# Altium footprint library PCB - LEADLESS - QFN - MINI-CIRCUITS QFN-12 DQ1225.PcbLib: 1 footprints
Each footprint in its own frame and in the unit in brackets; x right, y up, seen from the top. Pads: shape width x height; smd on the part's side, far side on the other; paste and mask are expansions set on the pad; w line width, h text height; cw(c..) or ccw(c..) is an arc to the next point about the centre after c.
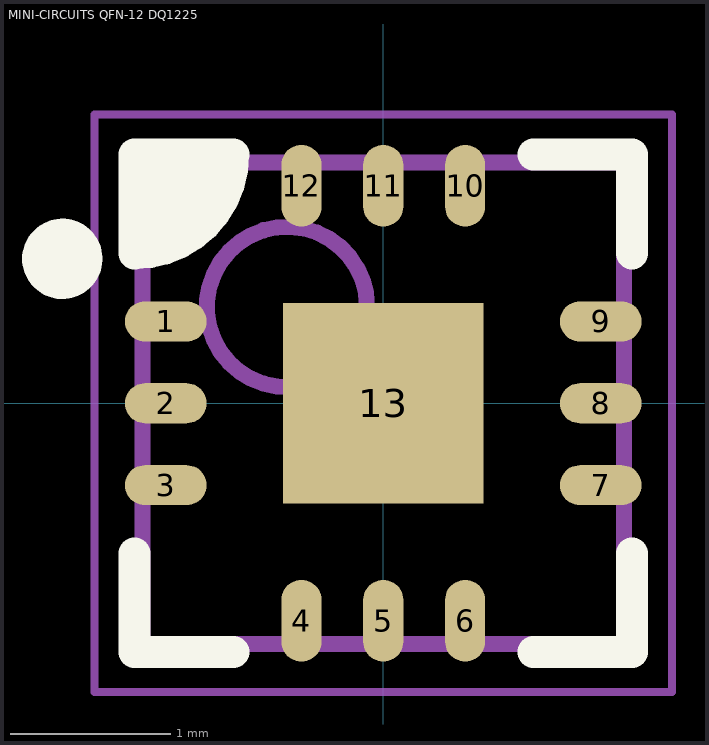
[diagram p0: the footprint, top view; thin cyan lines are the x and y axes]

## MINI-CIRCUITS QFN-12 DQ1225 [mm] "QFN, 12-Leads, Body 3.00x3.00mm, Pitch 0.51mm, Thermal Pad 1.25x1.25mm, IPC Medium Density"
height 0.89
pads (13):
  oval 0.51x0.25 smd: 1(-1.355,0.51) 2(-1.355,0) 3(-1.355,-0.51) 7(1.355,-0.51) 8(1.355,0) 9(1.355,0.51)
  oval 0.25x0.51 smd: 4(-0.51,-1.355) 5(0,-1.355) 6(0.51,-1.355) 10(0.51,1.355) 11(0,1.355) 12(-0.51,1.355)
  rect 1.25x1.25 smd: 13(0,0)
Top Overlay:
  circle w0.25: c-2,0.9 r0.125
  region: -0.935,1.55 -1.55,1.55 -1.55,0.935 -1.1,1.1
  lines w0.2: -1.55,-0.935 -1.55,-1.55 -0.935,-1.55 ; 0.935,-1.55 1.55,-1.55 1.55,-0.935 ; 0.935,1.55 1.55,1.55 1.55,0.935 ; -1.55,0.935 ccw(c-1.55,1.55) -0.935,1.55 -1.55,1.55 -1.55,0.935
Mechanical 13:
  circle w0.1: c-0.6,0.6 r0.5
  lines w0.1: -1.5,-1.5 -1.5,1.5 1.5,1.5 1.5,-1.5 -1.5,-1.5
Mechanical 15:
  lines w0.05: -1.8,-1.8 -1.8,1.8 1.8,1.8 1.8,-1.8 -1.8,-1.8
  lines w0.1: -0.5,0 0.5,0 ; 0,-0.5 0,0.5
3D body "MINI-CIRCUITS DQ1225.step": height 0.89, standoff 0, extent -1.52,-1.52 1.52,1.52